# Altium schematic symbol library Diodes.SchLib: 30 symbols
Pins are listed as number, name and electrical type; pins without a type are passive.

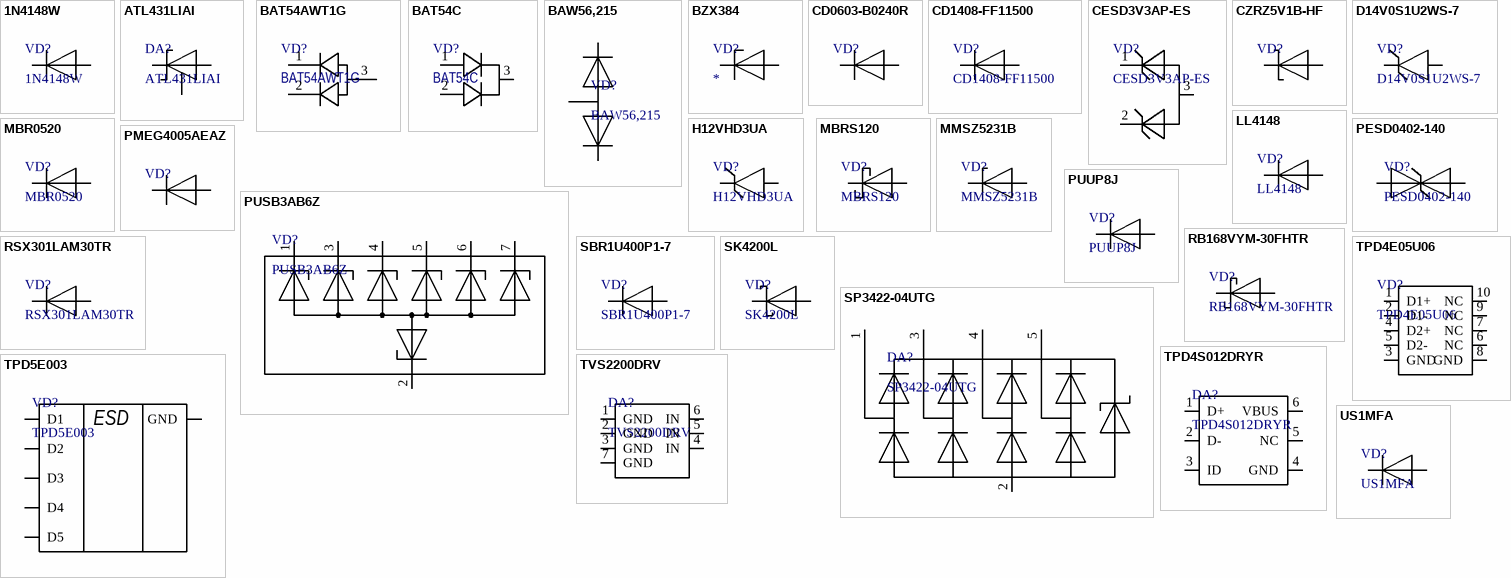
[diagram p0: symbols 1N4148W to US1MFA]

## 1N4148W
designator VD?
75V 400mW Single 1V@50mA 4ns 150mA SOD-123 Switching Diode
footprint SOD-123
pins: A, K

## ATL431LIAI
designator DA?
Voltage References Adjustable precision shunt regulator with optimized reference current (pin layout: KRA) 3-SOT-23 -40 to 85
footprint SOT-23-3
pins: D A, G K, S R

## BAT54AWT1G
designator VD?
Schottky Diodes & Rectifiers 30V 225mW Dual Common Anode
footprint SC70
pins: 1 K, 2 K, 3 A

## BAT54C
designator VD?
Schottky Diodes & Rectifiers 30V 225mW Dual Common Anode
footprint SOT-323
pins: 1 K, 2 K, 3 A

## BAW56,215
designator VD?
Diodes - General Purpose, Power, Switching BAW56/SOT23/TO-236AB
footprint SOT-23-3 t
pins: 1, 2, 3

## BZX384
designator VD?
footprint SOD323
pins: A, K

## CD0603-B0240R
designator VD?  (value not drawn)
Schottky Diodes & Rectifiers 0603 40V 0.2A
footprint CD0603-B0240R
pins: 1 C, 2 A

## CD1408-FF11500
designator VD?
Rectifiers CHIP DIODE
footprint SOD-87
pins: A, K

## CESD3V3AP-ES
designator VD?
Uni-direction ESD Protection Diode
footprint SOT-23-3 t
pins: 1, 2, 3

## CZRZ5V1B-HF
designator VD?  (value not drawn)
DIODE ZENER 5.1V 100MW 0201
footprint DFN0603
pins: A, K

## D14V0S1U2WS-7
designator VD?
50A@8/20us 1.3kW 26V 14.5V 14V SOD-323 ESD and Surge Protection (TVS/ESD) ROHS; Supplier 1: Digikey; Supplier Part Number 1: D14V0S1U2WS-7DICT-ND
footprint SOD323
pins: 1, 2

## H12VHD3UA
designator VD?
100A 2.5kW 25V 16V Unidirectional 12V SOD-323 ESD and Surge Protection (TVS/ESD) ROHS
footprint SOD323
pins: A, K

## LL4148
designator VD?
Diodes - General Purpose, Power, Switching Small Signal Diode
footprint SOD-80
pins: A, K

## MBR0520
designator VD?
20V 600mV@200mA 350mA SOD-123 Schottky Barrier Diodes
footprint SOD-123FA
pins: A, K

## MBRS120
designator VD?
SURFACE MOUNT SCHOTTKY BARRIER DIODE
footprint DO-214AA
pins: 1, 2

## MMSZ5231B
designator VD?
Zener Diodes Zener, SOD-123F, 5.1V, 0.5W, 5%
footprint SOD-123FA
pins: A, K

## PESD0402-140
designator VD?
40V Clamp Ipp Tvs Diode Surface Mount 0402
footprint PESD0402-140
pins: 1, 2

## PMEG4005AEAZ
designator VD?  (value not drawn)
DIODE SCHOTTKY 40V 500MA SOD323
footprint SOD323
pins: A, K

## PUSB3AB6Z
designator VD?
ESD protection
footprint PUSB3AB6Z (1,1x2,1x0,5 mm)
pins: 1, 2, 3, 4, 5, 6, 7

## PUUP8J
designator VD?
Rectifiers 25ns, 8A, 600V, Ultra Fast Recovery Rectifier
footprint TO-277A (SMPC4.6U)
pins: A, K

## RB168VYM-30FHTR
designator VD?
Schottky Diodes & Rectifiers 30V Vr 1A Io SBD SOD-323HE 1A
footprint SOD-323HE
pins: A 2, C 1

## RSX301LAM30TR
designator VD?
Schottky Rectifier, 30 V, 3 A, Single, SOD-128, 2 Pins, 420 mV
footprint SOD-128
pins: A, K

## SBR1U400P1-7
designator VD?
Schottky Diodes & Rectifiers SBRULTRA LOW VF 1A400V
footprint PowerDI123
pins: A, K

## SK4200L
designator VD?
Schottky Diodes & Rectifiers 200V, 4A
footprint SMC
pins: A, K

## SP3422-04UTG
designator DA?
16.7V (Typ) Clamp 2A (8/20µs) Ipp Tvs Diode Surface Mount 5-DFN (1x0.6)
footprint SP3422-04UTG
pins: 1, 2, 3, 4, 5

## TPD4E05U06
designator VD?
ULTRA LOW CAPACITANCE TVS DIODE ARRAY
footprint TPD4E05U06 (2.5x1x0.5 mm)
pins: 1 D1+, 2 D1-, 3 GND, 4 D2+, 5 D2-, 6 NC, 7 NC, 8 GND, 9 NC, 10 NC

## TPD4S012DRYR
designator DA?
TVS DIODE 5.5VWM 6SON
footprint TPD4S012DRYR
pins: 1 D+, 2 D-, 3 ID, 4 GND, 5 NC, 6 VBUS

## TPD5E003
designator VD?
Five-Channel Space-Saving ESD Protection Device; Part Number: TPD5E003
footprint X2SON
pins: 1 D1, 2 GND, 3 D2, 4 D3, 5 D4, 6 D5
text: ESD

## TVS2200DRV
designator DA?
UNIDIR PRECISION SURGE DIODE
footprint VSON6
pins: 1 GND, 2 GND, 3 GND, 4 IN, 5 IN, 6 IN, 7 GND

## US1MFA
designator VD?
Rectifiers 1000V 1A High Effic Rectifier
footprint SOD-123FA
pins: A, K